# EAGLE library part SN75174DW (library avrdmxsmt)
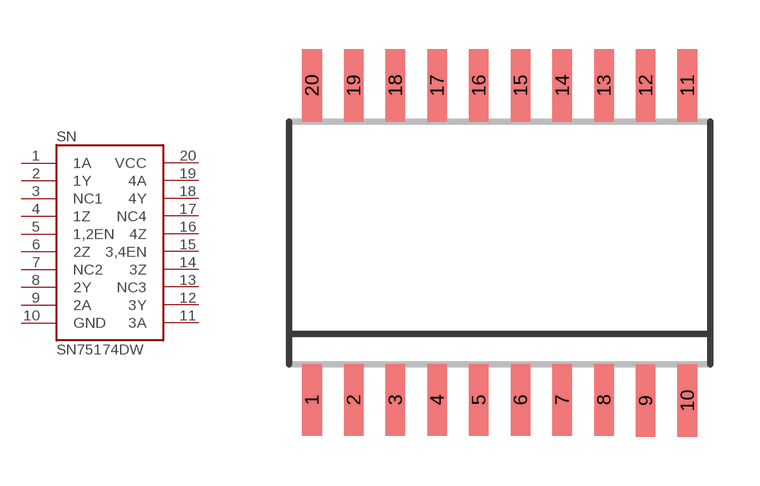
[diagram p0: symbol with the pads of SOIC20R; footprint SOIC20R]

Designator prefix SN

## SN75174DW  [SOIC20R]
1  1A
2  1Y
3  NC1
4  1Z
5  1,2EN
6  2Z
7  NC2
8  2Y
9  2A
10  GND
11  3A
12  3Y
13  NC3
14  3Z
15  3,4EN
16  4Z
17  NC4
18  4Y
19  4A
20  VCC

## Footprint SOIC20R (pad centres in mm)
20-LeadStandard Small Outline Package SOIC Wide Body (R-20) Source: http://www.analog.com/static/imported-files/data_sheets/AD811.pdf
smd 0.6 x 2.2: 1 -5.715,-4.775; 2 -4.445,-4.775; 3 -3.175,-4.775; 4 -1.905,-4.775; 5 -0.635,-4.775; 6 0.635,-4.775; 7 1.905,-4.775; 8 3.175,-4.775; 9 4.445,-4.8; 10 5.715,-4.8; 11 5.715,4.8; 12 4.445,4.8; 13 3.175,4.8; 14 1.905,4.8; 15 0.635,4.8; 16 -0.635,4.8; 17 -1.905,4.8; 18 -3.175,4.8; 19 -4.445,4.8; 20 -5.715,4.8